# EAGLE library part ADXL345BCCZ (library aurigaBot)
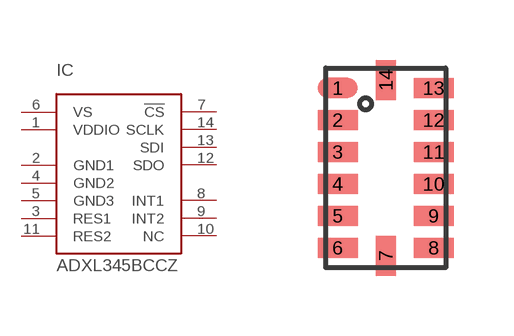
[diagram p5: symbol with the pads of LGA14; footprint LGA14]

Designator prefix IC

## ADXL345BCCZ  [LGA14]
1  VDDIO  pwr
2  GND1  pwr
3  RES1  pwr
4  GND2  pwr
5  GND3  pwr
6  VS  pwr
7  !CS
8  INT1  out
9  INT2  out
10  NC  nc
11  RES2  pwr
12  SDO
13  SDI
14  SCLK

## Footprint LGA14 (pad centres in mm)
smd 1 x 0.5: 1 -1.2,2; 2 -1.2,1.2; 3 -1.2,0.4; 4 -1.2,-0.4; 5 -1.2,-1.2; 6 -1.2,-2; 8 1.2,-2; 9 1.2,-1.2; 10 1.2,-0.4; 11 1.2,0.4; 12 1.2,1.2; 13 1.2,2
smd 0.5 x 1: 7 0,-2.2; 14 0,2.2